# Altium schematic symbol library TH resistors.SchLib: 86 symbols
Pins are listed as number, name and electrical type; pins without a type are passive.

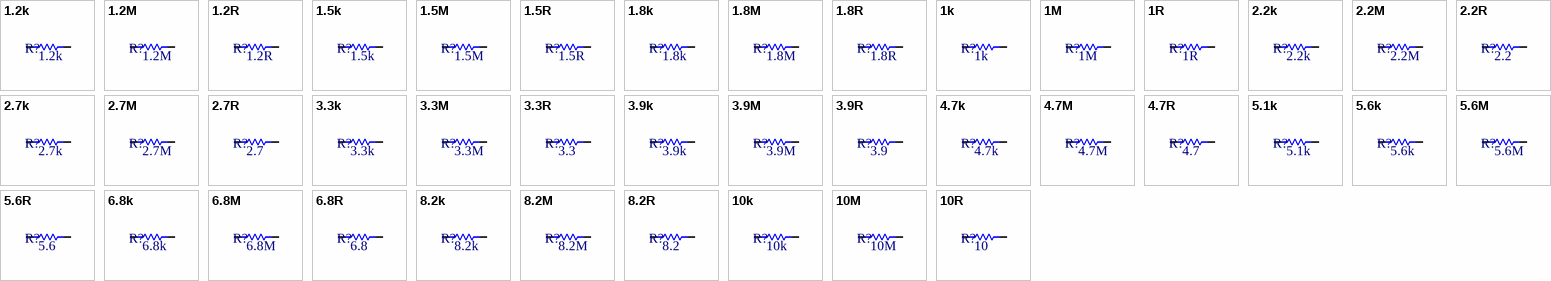
[diagram p0: symbols 1.2k to 10R]

## 1.2k
designator R?  Resistance: 1.2k
Resistor
footprint 1/2W 1k2
pins: 1, 2
1 alternate drawing of the same symbol

## 1.2M
designator R?  Resistance: 1.2M
Resistor
footprint 1/2W 1M2
pins: 1, 2
1 alternate drawing of the same symbol

## 1.2R
designator R?  Resistance: 1.2R
Resistor
footprint 1/2W 1R2
pins: 1, 2
1 alternate drawing of the same symbol

## 1.5k
designator R?  Resistance: 1.5k
Resistor
footprint 1/2W 1k5
pins: 1, 2
1 alternate drawing of the same symbol

## 1.5M
designator R?  Resistance: 1.5M
Resistor
footprint 1/2W 1M5
pins: 1, 2
1 alternate drawing of the same symbol

## 1.5R
designator R?  Resistance: 1.5R
Resistor
footprint 1/2W 1R5
pins: 1, 2
1 alternate drawing of the same symbol

## 1.8k
designator R?  Resistance: 1.8k
Resistor
footprint 1/2W 1k8
pins: 1, 2
1 alternate drawing of the same symbol

## 1.8M
designator R?  Resistance: 1.8M
Resistor
footprint 1/2W 1M8
pins: 1, 2
1 alternate drawing of the same symbol

## 1.8R
designator R?  Resistance: 1.8R
Resistor
footprint 1/2W 1R8
pins: 1, 2
1 alternate drawing of the same symbol

## 1k
designator R?  Resistance: 1k
Resistor
footprint 1/2W 1k
pins: 1, 2
1 alternate drawing of the same symbol

## 1M
designator R?  Resistance: 1M
Resistor
footprint 1/2W 1M
pins: 1, 2
1 alternate drawing of the same symbol

## 1R
designator R?  Resistance: 1R
Resistor
footprint 1/2W 1R
pins: 1, 2
1 alternate drawing of the same symbol

## 2.2k
designator R?  Resistance: 2.2k
Resistor
footprint 1/2W 2k2
pins: 1, 2
1 alternate drawing of the same symbol

## 2.2M
designator R?  Resistance: 2.2M
Resistor
footprint 1/2W 2M2
pins: 1, 2
1 alternate drawing of the same symbol

## 2.2R
designator R?  Resistance: 2.2
Resistor
footprint 1/2W 2R2
pins: 1, 2
1 alternate drawing of the same symbol

## 2.7k
designator R?  Resistance: 2.7k
Resistor
footprint 1/2W 2k7
pins: 1, 2
1 alternate drawing of the same symbol

## 2.7M
designator R?  Resistance: 2.7M
Resistor
footprint 1/2W 2M7
pins: 1, 2
1 alternate drawing of the same symbol

## 2.7R
designator R?  Resistance: 2.7
Resistor
footprint 1/2W 2R7
pins: 1, 2
1 alternate drawing of the same symbol

## 3.3k
designator R?  Resistance: 3.3k
Resistor
footprint 1/2W 3k3
pins: 1, 2
1 alternate drawing of the same symbol

## 3.3M
designator R?  Resistance: 3.3M
Resistor
footprint 1/2W 3M3
pins: 1, 2
1 alternate drawing of the same symbol

## 3.3R
designator R?  Resistance: 3.3
Resistor
footprint 1/2W 3R3
pins: 1, 2
1 alternate drawing of the same symbol

## 3.9k
designator R?  Resistance: 3.9k
Resistor
footprint 1/2W 3k9
pins: 1, 2
1 alternate drawing of the same symbol

## 3.9M
designator R?  Resistance: 3.9M
Resistor
footprint 1/2W 3M9
pins: 1, 2
1 alternate drawing of the same symbol

## 3.9R
designator R?  Resistance: 3.9
Resistor
footprint 1/2W 3R9
pins: 1, 2
1 alternate drawing of the same symbol

## 4.7k
designator R?  Resistance: 4.7k
Resistor
footprint 1/2W 4k7
pins: 1, 2
1 alternate drawing of the same symbol

## 4.7M
designator R?  Resistance: 4.7M
Resistor
footprint 1/2W 4M7
pins: 1, 2
1 alternate drawing of the same symbol

## 4.7R
designator R?  Resistance: 4.7
Resistor
footprint 1/2W 4R7
pins: 1, 2
1 alternate drawing of the same symbol

## 5.1k
designator R?  Resistance: 5.1k
Resistor
footprint 1/2W 5k1
pins: 1, 2
1 alternate drawing of the same symbol

## 5.6k
designator R?  Resistance: 5.6k
Resistor
footprint 1/2W 5k6
pins: 1, 2
1 alternate drawing of the same symbol

## 5.6M
designator R?  Resistance: 5.6M
Resistor
footprint 1/2W 5M6
pins: 1, 2
1 alternate drawing of the same symbol

## 5.6R
designator R?  Resistance: 5.6
Resistor
footprint 1/2W 5R6
pins: 1, 2
1 alternate drawing of the same symbol

## 6.8k
designator R?  Resistance: 6.8k
Resistor
footprint 1/2W 6k8
pins: 1, 2
1 alternate drawing of the same symbol

## 6.8M
designator R?  Resistance: 6.8M
Resistor
footprint 1/2W 6M8
pins: 1, 2
1 alternate drawing of the same symbol

## 6.8R
designator R?  Resistance: 6.8
Resistor
footprint 1/2W 6R8
pins: 1, 2
1 alternate drawing of the same symbol

## 8.2k
designator R?  Resistance: 8.2k
Resistor
footprint 1/2W 8k2
pins: 1, 2
1 alternate drawing of the same symbol

## 8.2M
designator R?  Resistance: 8.2M
Resistor
footprint 1/2W 8M2
pins: 1, 2
1 alternate drawing of the same symbol

## 8.2R
designator R?  Resistance: 8.2
Resistor
footprint 1/2W 8R2
pins: 1, 2
1 alternate drawing of the same symbol

## 10k
designator R?  Resistance: 10k
Resistor
footprint 1/2W 10k
pins: 1, 2
1 alternate drawing of the same symbol

## 10M
designator R?  Resistance: 10M
Resistor
footprint 1/2W 10M
pins: 1, 2
1 alternate drawing of the same symbol

## 10R
designator R?  Resistance: 10
Resistor
footprint 1/2W 10R
pins: 1, 2
1 alternate drawing of the same symbol

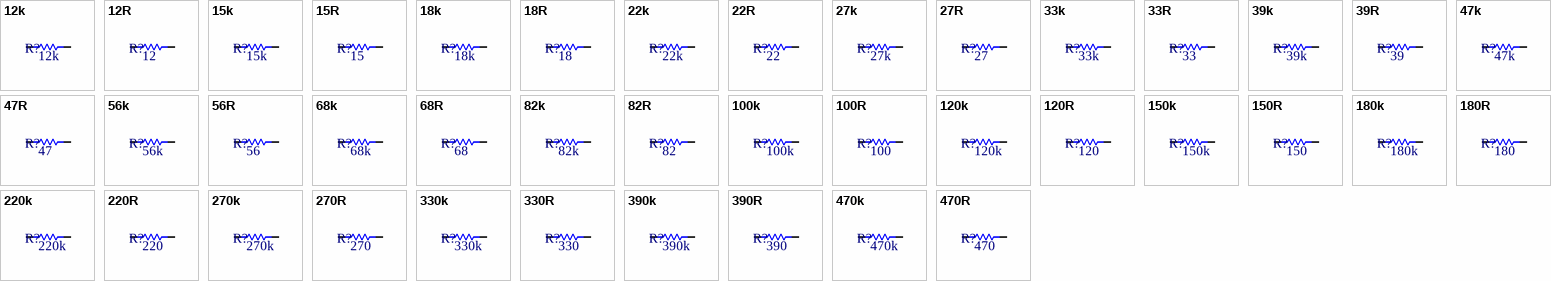
[diagram p1: symbols 12k to 470R]

## 12k
designator R?  Resistance: 12k
Resistor
footprint 1/2W 12K
pins: 1, 2
1 alternate drawing of the same symbol

## 12R
designator R?  Resistance: 12
Resistor
footprint 1/2W 12R
pins: 1, 2
1 alternate drawing of the same symbol

## 15k
designator R?  Resistance: 15k
Resistor
footprint 1/2W 15k
pins: 1, 2
1 alternate drawing of the same symbol

## 15R
designator R?  Resistance: 15
Resistor
footprint 1/2W 15R
pins: 1, 2
1 alternate drawing of the same symbol

## 18k
designator R?  Resistance: 18k
Resistor
footprint 1/2W 18k
pins: 1, 2
1 alternate drawing of the same symbol

## 18R
designator R?  Resistance: 18
Resistor
footprint 1/2W 18R
pins: 1, 2
1 alternate drawing of the same symbol

## 22k
designator R?  Resistance: 22k
Resistor
footprint 1/2W 22k
pins: 1, 2
1 alternate drawing of the same symbol

## 22R
designator R?  Resistance: 22
Resistor
footprint 1/2W 22R
pins: 1, 2
1 alternate drawing of the same symbol

## 27k
designator R?  Resistance: 27k
Resistor
footprint 1/2W 27K
pins: 1, 2
1 alternate drawing of the same symbol

## 27R
designator R?  Resistance: 27
Resistor
footprint 1/2W 27R
pins: 1, 2
1 alternate drawing of the same symbol

## 33k
designator R?  Resistance: 33k
Resistor
footprint 1/2W 33k
pins: 1, 2
1 alternate drawing of the same symbol

## 33R
designator R?  Resistance: 33
Resistor
footprint 1/2W 33R
pins: 1, 2
1 alternate drawing of the same symbol

## 39k
designator R?  Resistance: 39k
Resistor
footprint 1/2W 39k
pins: 1, 2
1 alternate drawing of the same symbol

## 39R
designator R?  Resistance: 39
Resistor
footprint 1/2W 39R
pins: 1, 2
1 alternate drawing of the same symbol

## 47k
designator R?  Resistance: 47k
Resistor
footprint 1/2W 47k
pins: 1, 2
1 alternate drawing of the same symbol

## 47R
designator R?  Resistance: 47
Resistor
footprint 1/2W 47R
pins: 1, 2
1 alternate drawing of the same symbol

## 56k
designator R?  Resistance: 56k
Resistor
footprint 1/2W 56k
pins: 1, 2
1 alternate drawing of the same symbol

## 56R
designator R?  Resistance: 56
Resistor
footprint 1/2W 56R
pins: 1, 2
1 alternate drawing of the same symbol

## 68k
designator R?  Resistance: 68k
Resistor
footprint 1/2W 68k
pins: 1, 2
1 alternate drawing of the same symbol

## 68R
designator R?  Resistance: 68
Resistor
footprint 1/2W 68R
pins: 1, 2
1 alternate drawing of the same symbol

## 82k
designator R?  Resistance: 82k
Resistor
footprint 1/2W 82k
pins: 1, 2
1 alternate drawing of the same symbol

## 82R
designator R?  Resistance: 82
Resistor
footprint 1/2W 82R
pins: 1, 2
1 alternate drawing of the same symbol

## 100k
designator R?  Resistance: 100k
Resistor
footprint 1/2W 100k
pins: 1, 2
1 alternate drawing of the same symbol

## 100R
designator R?  Resistance: 100
Resistor
footprint 1/2W 100R
pins: 1, 2
1 alternate drawing of the same symbol

## 120k
designator R?  Resistance: 120k
Resistor
footprint 1/2W 120k
pins: 1, 2
1 alternate drawing of the same symbol

## 120R
designator R?  Resistance: 120
Resistor
footprint 1/2W 120R
pins: 1, 2
1 alternate drawing of the same symbol

## 150k
designator R?  Resistance: 150k
Resistor
footprint 1/2W 150k
pins: 1, 2
1 alternate drawing of the same symbol

## 150R
designator R?  Resistance: 150
Resistor
footprint 1/2W 150R
pins: 1, 2
1 alternate drawing of the same symbol

## 180k
designator R?  Resistance: 180k
Resistor
footprint 1/2W 180k
pins: 1, 2
1 alternate drawing of the same symbol

## 180R
designator R?  Resistance: 180
Resistor
footprint 1/2W 180R
pins: 1, 2
1 alternate drawing of the same symbol

## 220k
designator R?  Resistance: 220k
Resistor
footprint 1/2W 220k
pins: 1, 2
1 alternate drawing of the same symbol

## 220R
designator R?  Resistance: 220
Resistor
footprint 1/2W 220R
pins: 1, 2
1 alternate drawing of the same symbol

## 270k
designator R?  Resistance: 270k
Resistor
footprint 1/2W 270k
pins: 1, 2
1 alternate drawing of the same symbol

## 270R
designator R?  Resistance: 270
Resistor
footprint 1/2W 270R
pins: 1, 2
1 alternate drawing of the same symbol

## 330k
designator R?  Resistance: 330k
Resistor
footprint 1/2W 330k
pins: 1, 2
1 alternate drawing of the same symbol

## 330R
designator R?  Resistance: 330
Resistor
footprint 1/2W 330R
pins: 1, 2
1 alternate drawing of the same symbol

## 390k
designator R?  Resistance: 390k
Resistor
footprint 1/2W 390k
pins: 1, 2
1 alternate drawing of the same symbol

## 390R
designator R?  Resistance: 390
Resistor
footprint 1/2W 390R
pins: 1, 2
1 alternate drawing of the same symbol

## 470k
designator R?  Resistance: 470k
Resistor
footprint 1/2W 470K
pins: 1, 2
1 alternate drawing of the same symbol

## 470R
designator R?  Resistance: 470
Resistor
footprint 1/2W 470R
pins: 1, 2
1 alternate drawing of the same symbol

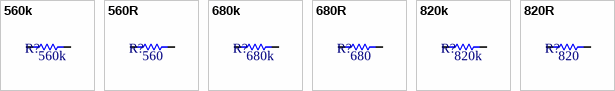
[diagram p2: symbols 560k to 820R]

## 560k
designator R?  Resistance: 560k
Resistor
footprint 1/2W 560K
pins: 1, 2
1 alternate drawing of the same symbol

## 560R
designator R?  Resistance: 560
Resistor
footprint 1/2W 560R
pins: 1, 2
1 alternate drawing of the same symbol

## 680k
designator R?  Resistance: 680k
Resistor
footprint 1/2W 680k
pins: 1, 2
1 alternate drawing of the same symbol

## 680R
designator R?  Resistance: 680
Resistor
footprint 1/2W 680R
pins: 1, 2
1 alternate drawing of the same symbol

## 820k
designator R?  Resistance: 820k
Resistor
footprint 1/2W 820k
pins: 1, 2
1 alternate drawing of the same symbol

## 820R
designator R?  Resistance: 820
Resistor
footprint 1/2W 820R
pins: 1, 2
1 alternate drawing of the same symbol